# Altium integrated library ECA2WHG220.IntLib: 1 symbol
Pins are listed as number, name and electrical type; pins without a type are passive.

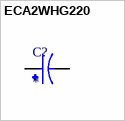
[diagram p0: symbol ECA2WHG220]

## ECA2WHG220
designator C?
Cap Aluminum 22uF 450V 20% (16 X 25mm) Radial Aluminum Cylindrical Can 7.5mm 115mA 2000 hr 105C Bulk; MF: Panasonic; MP: ECA-2WHG220; Package: RADIAL-2 Panasonic; Value: *; Availability: In Stock; Check_prices: https://www.snapeda.com/parts/ECA-2WHG220/Panasonic/view-part/390097/?ref=eda; Price: None; SnapEDA_Link: https://www.snapeda.com/parts/ECA-2WHG220/Panasonic/view-part/390097/?ref=snap
footprint CAPPRD750W80D1600H2500
pins: N, P